# Altium schematic symbol library MB4S.Schlib: 1 symbol
Pins are listed as number, name and electrical type; pins without a type are passive.

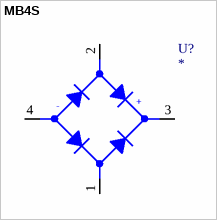
[diagram p0: symbol MB4S]

## MB4S
designator U?
Surface Mount Bridge Rectifier 400V .5A
pins: 1 AC IN 1, 2 AC IN 2, 3 DC OUT PLUS, 4 DC OUT MINUS
text: -; +